# Altium footprint library IBB.PcbLib: 53 footprints (part 1 of 4)
Each footprint in its own frame and in the unit in brackets; x right, y up, seen from the top. Pads: shape width x height; smd on the part's side, far side on the other; paste and mask are expansions set on the pad; w line width, h text height; cw(c..) or ccw(c..) is an arc to the next point about the centre after c.
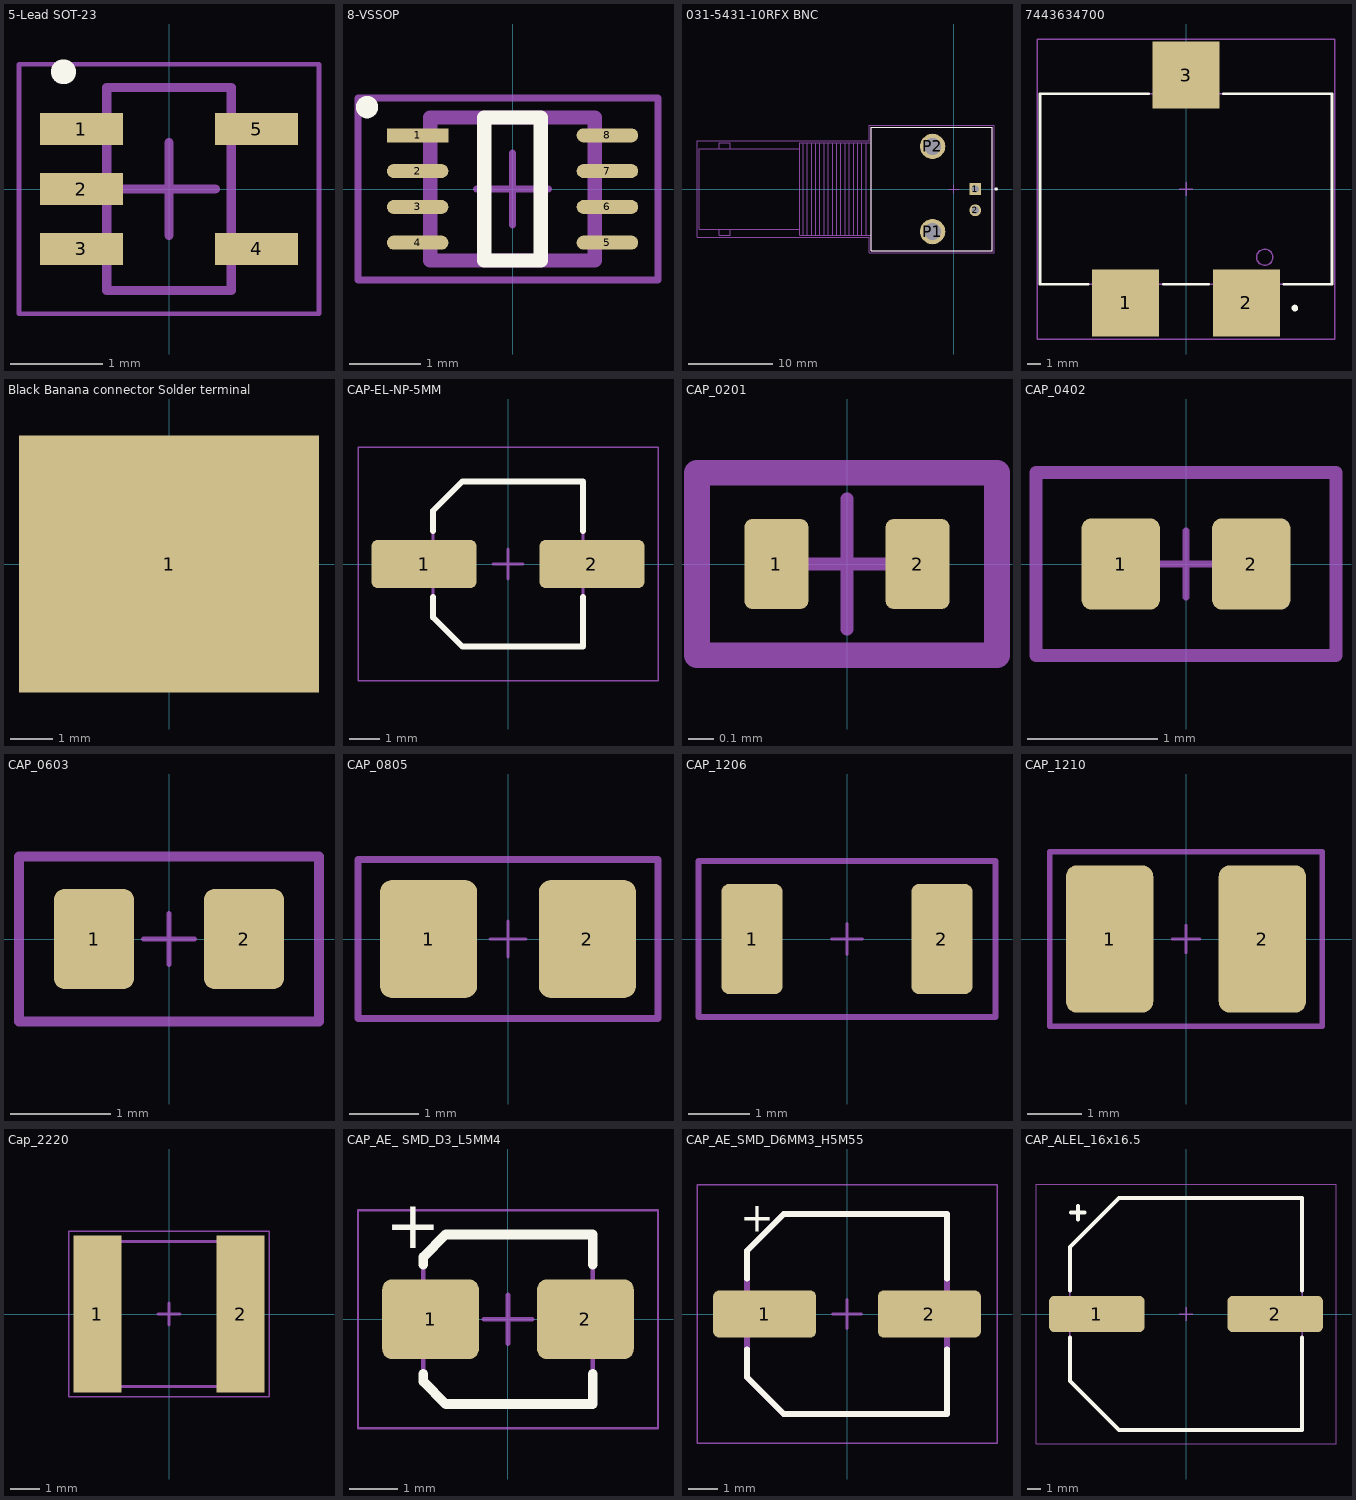
[diagram p0: the footprints below, top view; thin cyan lines are the x and y axes]

## 5-Lead SOT-23 [mm]
pads (5):
  rect 0.9x0.35 smd mask+0.1: 1(-0.95,0.65) 2(-0.95,0) 3(-0.95,-0.65) 4(0.95,-0.65) 5(0.95,0.65)
Top Overlay:
  circle w0.25: c-1.143,1.27 r0.01
Top Component Center:
  lines w0.1: -0.5,0 0.5,0 ; 0,-0.5 0,0.5
Top Designator:
  text ".Designator" at -2.252,-0.226 h1
Top Assembly:
  lines w0.1: -0.675,-1.1 -0.675,1.1 0.675,1.1 0.675,-1.1 -0.675,-1.1
Top Component Outline:
  lines w0.05: -1.625,-1.35 1.625,-1.35 1.625,1.35 -1.625,1.35 -1.625,-1.35
3D body: height 1.1, standoff 0.1, extent -0.675,-1.1 0.675,1.1

## 8-VSSOP [mm]
pads (8):
  rect 0.86x0.197 smd paste+0: 1(-1.326,0.75)
  rrect100% 0.86x0.197 smd paste+0: 2(-1.326,0.25) 3(-1.326,-0.25) 4(-1.326,-0.75) 5(1.326,-0.75) 6(1.326,-0.25) 7(1.326,0.25) 8(1.326,0.75)
Top Overlay:
  circle w0.25: c-2.032,1.143 r0.03
  lines w0.2: -0.396,-1 0.396,-1 0.396,1 -0.396,1 -0.396,-1
Top 3D Body:
  lines w0.2: -1.15,-1 1.15,-1 1.15,1 -1.15,1 -1.15,-1
Top Component Center:
  lines w0.1: -0.5,0 0.5,0 ; 0,-0.5 0,0.5
Top Designator:
  text ".Designator" at -2.252,-0.226 h1
Top Component Outline:
  lines w0.1: -2.159,1.016 -2.159,1.27 -1.778,1.27 ; -2.159,1.1 -2.159,-1.27 2.032,-1.27 2.032,1.27 -1.856,1.27
3D body "IC_Texas_Instruments_SN74LVC3G34DCUR_eec.STEP": height 0.25, standoff 0, extent -1.856,-1.1 1.856,1.1

## 031-5431-10RFX BNC [mm]
pads (4):
  rect 1.398x1.398 / inner round 1.398 / far side rect 1.398x1.398 hole 0.89 mask+0.102: 1(2.54,0)
  round 1.398 hole 0.89 mask+0.102: 2(2.54,-2.54)
  round 3.015 hole 2.01 mask+0.102: P1(-2.54,-5.08) P2(-2.54,5.08)
Top Overlay:
  circle w0.2: c5.032,0 r0.1
  lines w0.127: -9.84,-7.35 -9.84,-5.5 -9.84,5.5 -9.84,7.35 4.56,7.35 4.56,-7.35 -9.84,-7.35
Top Component Center:
  lines w0.1: -0.635,0 0.635,0 ; 0,-0.508 0,0.508
Top Designator:
  text ".Designator" at -3.434,-0.345 h1.52
Top Assembly:
  lines w0.127: -18.36,-4.8 -26.67,-4.8 ; -18.36,4.8 -26.67,4.8 ; -27.94,-4.8 -30.36,-4.8 -30.36,4.8 -27.94,4.8 ; -27.94,-4.8 -27.94,-5.5 -26.67,-5.5 -26.67,-4.8 ; -27.94,-4.8 -26.67,-4.8 ; -27.94,4.8 -27.94,5.5 -26.67,5.5 -26.67,4.8 ; -27.94,4.8 -26.67,4.8 ; -17.96,-5.5 -17.46,-5.5 ; -17.96,-5.5 -18.36,-5.5 -18.36,5.5 -17.96,5.5 ; -17.96,-5.5 -17.96,5.5 ; -17.96,5.5 -17.46,5.5 ; -17.46,-5.5 -16.96,-5.5 ; -17.46,-5.5 -17.46,5.5 ; -17.46,5.5 -16.96,5.5 ; -16.96,-5.5 -16.46,-5.5 ; -16.96,-5.5 -16.96,5.5 ; -16.96,5.5 -16.46,5.5 ; -16.46,-5.5 -16.46,5.5 ; -16.46,-5.5 -15.96,-5.5 ; -16.46,5.5 -15.96,5.5 ; -15.96,-5.5 -15.96,5.5 ; -15.96,-5.5 -15.46,-5.5 ; -15.96,5.5 -15.46,5.5 ; -15.46,-5.5 -15.46,5.5 ; -15.46,-5.5 -14.96,-5.5 ; -15.46,5.5 -14.96,5.5 ; -14.96,-5.5 -14.46,-5.5 ; -14.96,-5.5 -14.96,5.5 ; -14.96,5.5 -14.46,5.5 ; -14.46,-5.5 -13.96,-5.5 ; -14.46,-5.5 -14.46,5.5 ; -14.46,5.5 -13.96,5.5 ; -13.96,-5.5 -13.46,-5.5 ; -13.96,-5.5 -13.96,5.5 ; -13.96,5.5 -13.46,5.5 ; -13.46,-5.5 -13.46,5.5 ; -13.46,-5.5 -12.96,-5.5 ; -13.46,5.5 -12.96,5.5 ; -12.96,-5.5 -12.96,5.5 ; -12.96,-5.5 -12.46,-5.5 ; -12.96,5.5 -12.46,5.5 ; -12.46,-5.5 -12.46,5.5 ; -12.46,-5.5 -11.96,-5.5 ; -12.46,5.5 -11.96,5.5 ; -11.96,-5.5 -11.46,-5.5 ; -11.96,-5.5 -11.96,5.5 ; -11.96,5.5 -11.46,5.5 ; -11.46,-5.5 -10.96,-5.5 ; -11.46,-5.5 -11.46,5.5 ; -11.46,5.5 -10.96,5.5 ; -10.96,-5.5 -10.46,-5.5 ; -10.96,-5.5 -10.96,5.5 ; -10.96,5.5 -10.46,5.5 ; -10.46,-5.5 -10.46,5.5 ; -10.46,-5.5 -9.84,-5.5 ; -10.46,5.5 -9.84,5.5 ; -9.84,-5.5 -9.84,-7.35 4.56,-7.35 4.56,7.35 -9.84,7.35 -9.84,5.5 ; -9.84,-5.5 -9.84,5.5
Top Component Outline:
  lines w0.05: -30.61,-5.75 -30.61,5.75 -10.09,5.75 -10.09,7.6 4.81,7.6 4.81,-7.6 -10.09,-7.6 -10.09,-5.75 -30.61,-5.75
3D body "step_temp.STEP": height 15.27, standoff -4.83, extent -30.635,-7.375 4.865,7.325

## 7443634700 [mm] "FIXED IND 47UH 12A 12.2 MOHM SMD"
pads (3):
  rect 5x5 smd: 1(-4.5,-8.5) 2(4.5,-8.5) 3(0,8.5)
Top Overlay:
  circle w0.25: c8.128,-8.89 r0.125
  lines w0.2: -7.3,-7.1 -10.9,-7.1 -10.9,7.1 -2.8,7.1 ; -1.7,-7.1 1.7,-7.1 ; 2.8,7.1 10.9,7.1 10.9,-7.1 7.3,-7.1
Top Component Center:
  lines w0.1: -0.5,0 0.5,0 ; 0,-0.5 0,0.5
Top Designator:
  text ".Designator" at -3.647,-0.357 h1
Top Assembly:
  circle w0.1: c5.88,-5.1 r0.6
  lines w0.1: -5.75,-7.1 -5.75,-10.6 -3.25,-10.6 -3.25,-7.1 ; -1.25,7.1 -1.25,10.4 1.25,10.4 1.25,7.1 ; 3.25,-7.1 3.25,-10.6 5.75,-10.6 5.75,-7.1 ; -10.9,-7.1 10.9,-7.1 10.9,7.1 -10.9,7.1 -10.9,-7.1
Board Shape:
  lines w0.1: -5.75,-7.1 -5.75,-10.6 -3.25,-10.6 -3.25,-7.1 ; -1.25,7.1 -1.25,10.4 1.25,10.4 1.25,7.1 ; 3.25,-7.1 3.25,-10.6 5.75,-10.6 5.75,-7.1 ; -10.9,-7.1 -10.9,7.1 10.9,7.1 10.9,-7.1 -10.9,-7.1
Top Component Outline:
  lines w0.1: -11.1,-11.2 11.1,-11.2 11.1,11.2 -11.1,11.2 -11.1,-11.2
3D body "Download_STP_744363xxxx (rev1).stp": height 14.05, standoff 0.05, extent -10.75,-10.6 10.75,10.4

## Black Banana connector Solder terminal [mm]
pads (1):
  rect 7x6 smd: 1(0,0)
3D body "Black banana jack.stp": height 7.65, standoff -6.65, extent -3.302,-6.769 30.988,7.531

## CAP-EL-NP-5MM [mm]
height 6.1
pads (2):
  rrect25% 3.5x1.6 smd: 1(-2.8,0) 2(2.8,0)
Top Overlay:
  lines w0.2: -2.5,-1.1 -2.5,-1.775 -1.525,-2.75 2.5,-2.75 2.5,-1.1 ; -2.5,1.1 -2.5,1.775 -1.525,2.75 2.5,2.75 2.5,1.1
Mechanical 13:
  lines w0.1: -2.5,-1.775 -1.525,-2.75 2.5,-2.75 2.5,2.75 -1.525,2.75 -2.5,1.775 -2.5,-1.775
  text "'.Designator'" at -6.315,-1.4 h1
Top Component Outline:
  lines w0.05: -5,-3.9 -5,3.9 5,3.9 5,-3.9 -5,-3.9
  lines w0.1: -0.5,0 0.5,0 ; 0,-0.5 0,0.5
3D body "CAP-EL-NP-5MM.step": height 6.1, standoff 0, extent -2.65,-2.75 2.65,2.75

## CAP_0201 [mm]
pads (2):
  rrect25% 0.25x0.35 smd mask+0.05: 1(-0.275,0) 2(0.275,0)
Top Component Center:
  lines w0.05: -0.254,0 0.254,0 ; 0,-0.254 0,0.254
Top Designator:
  text ".Designator" at -1.126,-0.113 h0.5
Top Component Outline:
  lines w0.1: -0.584,-0.356 -0.584,0.356 0.584,0.356 0.584,-0.356 -0.584,-0.356
3D body "C0201.stp": height 0.34, standoff 0.01, extent -0.315,-0.166 0.315,0.164

## CAP_0402 [mm]
pads (2):
  rrect25% 0.6x0.7 smd: 1(-0.5,0) 2(0.5,0)
Top Component Center:
  lines w0.05: -0.254,0 0.254,0 ; 0,-0.254 0,0.254
Top Designator:
  text "'.Designator'" at -2.417,-0.099 h1
Top Component Outline:
  lines w0.1: -1.15,-0.7 -1.15,0.7 1.15,0.7 1.15,-0.7 -1.15,-0.7
3D body "C0402.step": height 0.37, standoff 0.01, extent -0.5,-0.265 0.5,0.265

## CAP_0603 [mm]
pads (2):
  rrect25% 0.8x1 smd: 1(-0.75,0) 2(0.75,0)
Top Component Center:
  lines w0.05: -0.254,0 0.254,0 ; 0,-0.254 0,0.254
Top Designator:
  text "'.Designator'" at -2.417,-0.226 h1
Top Component Outline:
  lines w0.1: -1.5,-0.825 1.5,-0.825 1.5,0.825 -1.5,0.825 -1.5,-0.825
3D body "C0603.step": height 0.51, standoff 0.01, extent -0.8,-0.4 0.8,0.4

## CAP_0805 [mm]
pads (2):
  rrect25% 1.4x1.7 smd: 1(-1.143,0) 2(1.143,0)
Top Component Center:
  lines w0.05: -0.254,0 0.254,0 ; 0,-0.254 0,0.254
Top Designator:
  text "'.Designator'" at -2.417,-0.226 h1
Top Component Outline:
  lines w0.1: -2.159,-1.143 -2.159,1.143 2.159,1.143 2.159,-1.143 -2.159,-1.143
3D body "C0805.stp": height 1.01, standoff 0.01, extent -1.15,-0.762 1.15,0.788

## CAP_1206 [mm]
pads (2):
  rrect25% 1x1.8 smd: 1(-1.55,0) 2(1.55,0)
Top Component Center:
  lines w0.05: -0.254,0 0.254,0 ; 0,-0.254 0,0.254
Top Designator:
  text "'.Designator'" at -2.417,-0.226 h1
Top Component Outline:
  lines w0.1: -2.425,-1.275 2.425,-1.275 2.425,1.275 -2.425,1.275 -2.425,-1.275
3D body "C1206.step": height 0.94, standoff 0, extent -1.6,-0.8 1.6,0.8

## CAP_1210 [mm]
height 1.35
pads (2):
  rrect25% 1.6x2.7 smd: 1(-1.4,0) 2(1.4,0)
Top Component Center:
  lines w0.05: -0.254,0 0.254,0 ; 0,-0.254 0,0.254
Top Designator:
  text "'.Designator'" at -2.417,-0.226 h1
Top Component Outline:
  lines w0.1: -2.5,-1.6 -2.5,1.6 2.5,1.6 2.5,-1.6 -2.5,-1.6
3D body "C1210.step": height 2.5, standoff 0, extent -1.6,-1.25 1.6,1.25

## Cap_2220 [mm]
pads (2):
  rect 1.66x5.41 smd: 1(-2.47,0) 2(2.47,0)
Top 3D Body:
  text ".Designator" at -3.434,-0.345 h1.52
Top Component Center:
  lines w0.1: -0.381,0 0.381,0 ; 0,-0.381 0,0.381
Top Assembly:
  lines w0.1: -2.85,-2.5 -2.85,2.5 2.85,2.5 2.85,-2.5 -2.85,-2.5
Top Component Outline:
  lines w0.05: -3.45,-2.86 3.45,-2.86 3.45,2.86 -3.45,2.86 -3.45,-2.86
3D body "step_temp.STEP": height 3.3, standoff 0, extent -2.85,-2.5 2.85,2.5

## CAP_AE_ SMD_D3_L5MM4 [mm] "Aluminum Electrolytic Capacitor, Body 3.30x3.30x5.50mm, IPC Medium Density"
height 5.5
pads (2):
  rrect25% 2x1.65 smd: 1(-1.6,0) 2(1.6,0)
Top Overlay:
  lines w0.2: -1.75,-1.125 -1.75,-1.288 -1.288,-1.75 1.75,-1.75 1.75,-1.125 ; -1.75,1.125 -1.75,1.288 -1.288,1.75 1.75,1.75 1.75,1.125
  text "+" at -2.533,1.467 h1
Mechanical 13:
  lines w0.1: -1.75,-1.288 -1.75,1.288 -1.288,1.75 1.75,1.75 1.75,-1.75 -1.288,-1.75 -1.75,-1.288
  text "+" at -2.483,1.508 h1
  text "'.Designator'" at -5.815,-0.9 h1
Top Component Outline:
  lines w0.05: -3.1,-2.25 3.1,-2.25 3.1,2.25 -3.1,2.25 -3.1,-2.25
  lines w0.1: -0.5,0 0.5,0 ; 0,-0.5 0,0.5
3D body "CAP_AE_ SMD_D3_L5MM4.step": height 5.5, standoff 0, extent -1.9,-1.75 1.9,1.75

## CAP_AE_SMD_D6MM3_H5M55 [mm] "Aluminum Electrolytic Capacitor, Body 6.30x6.60x5.50mm, IPC Low Density"
height 5.5
pads (2):
  rrect25% 3.5x1.6 smd: 1(-2.8,0) 2(2.8,0)
Top Overlay:
  lines w0.2: -3.4,-1.2 -3.4,-2.15 -2.15,-3.4 3.4,-3.4 3.4,-1.2 ; -3.4,1.2 -3.4,2.15 -2.15,3.4 3.4,3.4 3.4,1.2
  text "+" at -3.633,2.8 h1
Mechanical 13:
  lines w0.2: -3.4,-2.15 -3.4,2.15 -2.15,3.4 3.4,3.4 3.4,-3.4 -2.15,-3.4 -3.4,-2.15
  text "+" at -3.633,2.8 h1
  text ".Designator" at -4.998,-0.333 h1
Top Component Outline:
  lines w0.05: -5.1,-4.4 5.1,-4.4 5.1,4.4 -5.1,4.4 -5.1,-4.4
  lines w0.1: -0.5,0 0.5,0 ; 0,-0.5 0,0.5
3D body "CAP_AE_SMD_D6MM3_H5M55.step": height 5.5, standoff -0.8, extent -3.4,-3.4 3.4,3.4

## CAP_ALEL_16x16.5 [mm] "Aluminum Electrolytic Capacitor, Body 17.00x17.00x17.00mm, IPC Low Density"
height 17
pads (2):
  rrect25% 7.05x2.65 smd: 1(-6.6,0) 2(6.6,0)
Top Overlay:
  lines w0.3: -8.6,-1.75 -8.6,-4.962 -4.962,-8.6 8.6,-8.6 8.6,-1.75 ; -8.6,1.75 -8.6,4.963 -4.962,8.6 8.6,8.6 8.6,1.75 ; -8.5,7.5 -7.5,7.5 ; -8,7 -8,8
Mechanical 13:
  lines w0.1: -8.6,-4.962 -8.6,4.963 -4.962,8.6 8.6,8.6 8.6,-8.6 -4.962,-8.6 -8.6,-4.962
  text "+" at -8.966,6.517 h2
  text "'.Designator'" at -5.815,-0.9 h1
Top Component Outline:
  lines w0.05: -11.1,-9.6 11.1,-9.6 11.1,9.6 -11.1,9.6 -11.1,-9.6
  lines w0.1: -0.5,0 0.5,0 ; 0,-0.5 0,0.5
3D body "CAPAE180170X170M.step": height 17, standoff 0, extent -9,-8.6 9,8.6